# Altium footprint library 排针.PCBLIB: 50 footprints (part 1 of 4)
Each footprint in its own frame and in the unit in brackets; x right, y up, seen from the top. Pads: shape width x height; smd on the part's side, far side on the other; paste and mask are expansions set on the pad; w line width, h text height; cw(c..) or ccw(c..) is an arc to the next point about the centre after c.
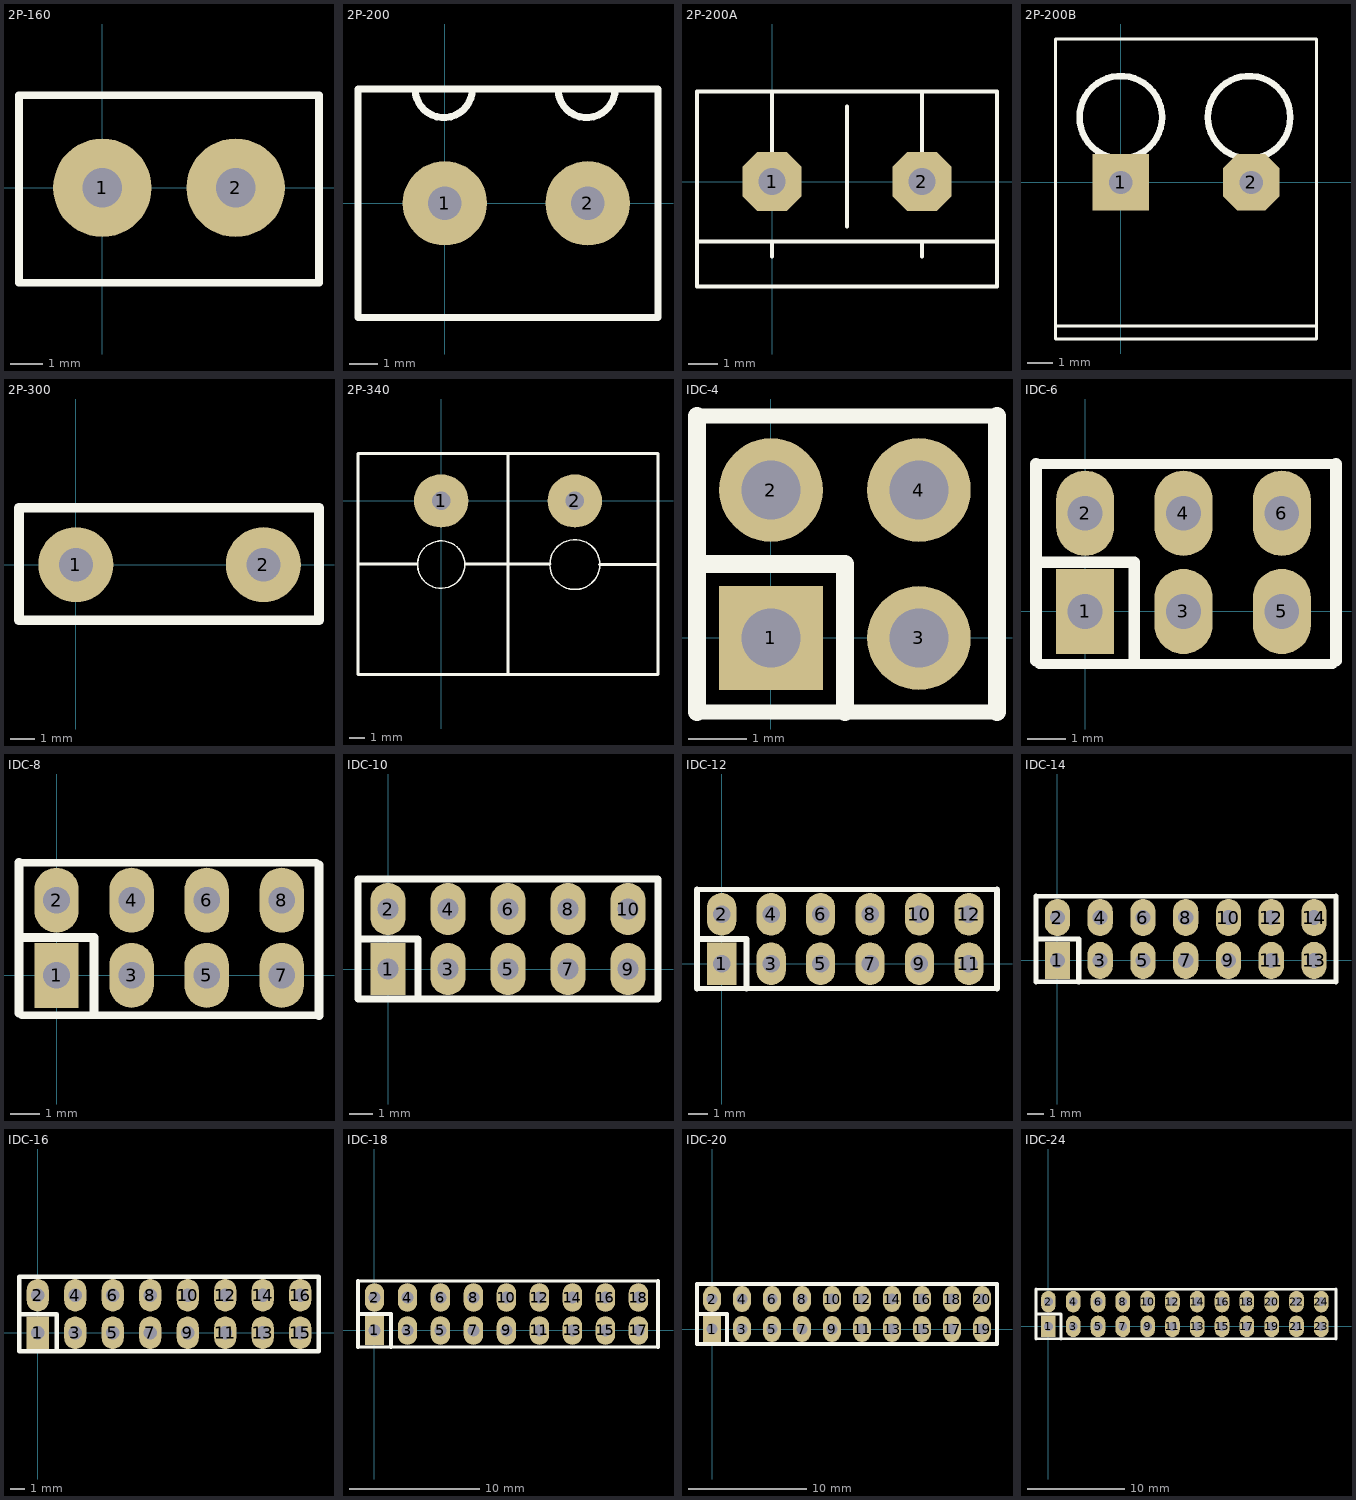
[diagram p0: the footprints below, top view; thin cyan lines are the x and y axes]

## 2P-160 [mm]
pads (2):
  round 3 hole 1.2: 1(0,0) 2(4.064,0)
TopOverlay:
  lines w0.24: -2.54,-2.896 6.604,-2.896 6.604,2.54 6.604,2.819 -2.54,2.819 -2.54,-2.896

## 2P-200 [mm]
pads (2):
  round 3 hole 1.2: 1(0,0) 2(5.08,0)
TopOverlay:
  lines w0.254: -1.056,4.064 ccw(c-0.04,4.064) 0.976,4.064 ; 4.024,4.064 ccw(c5.04,4.064) 6.056,4.064 ; -3.088,-4.064 7.58,-4.064 7.58,4.064 2.5,4.064 -3.088,4.064 -3.088,-4.064

## 2P-200A [mm]
pads (2):
  oct 2x2 hole 0.9: 1(0,0) 2(5.08,0)
TopOverlay:
  lines w0.127: -2.54,-2.032 7.62,-2.032 ; 0,-2.54 0,-2.032 ; 0,1.016 0,3.048 ; 2.54,-1.524 2.54,1.016 ; 2.54,0.508 2.54,2.54 ; 5.08,-2.54 5.08,-2.032 ; 5.08,1.016 5.08,3.048 ; -2.54,-3.556 -2.54,3.048 2.54,3.048 7.62,3.048 7.62,-3.556 2.54,-3.556 -2.54,-3.556

## 2P-200B [mm]
pads (2):
  rect 2.2x2.2 hole 0.9: 1(0,0)
  oct 2.2x2.2 hole 0.9: 2(5.08,0)
TopOverlay:
  circle w0.254: c4.998,2.54 r1.606
  circle w0.254: c0,2.54 r1.606
  lines w0.127: -2.54,-5.588 7.62,-5.588 ; -2.54,-5.588 -2.54,5.588 2.54,5.588 7.62,5.588 7.62,-5.588 ; -2.54,-5.588 -2.54,-6.096 7.62,-6.096 7.62,-5.588

## 2P-300 [mil]
pads (2):
  round 120 hole 54: 1(0,0) 2(300,0)
TopOverlay:
  lines w15.75: -91,-89 389,-89 389,91 -91,91 -91,-89

## 2P-340 [mm]
pads (2):
  oval 3.5x3.4 hole 1.2: 1(0,0) 2(8.6,0)
TopOverlay:
  circle w0.1: c8.6,-4.1 r1.606
  circle w0.1: c0,-4.1 r1.524
  lines w0.2: -5.352,-4.064 -1.6,-4.064 ; 1.56,-4.064 7,-4.064 ; 4.3,-11.176 4.3,3.048 ; 10.206,-4.1 13.916,-4.1 ; -5.352,-11.176 -5.352,3.048 13.952,3.048 13.952,-11.176 -5.352,-11.176

## IDC-4 [mil]
pads (4):
  rect 70x70 hole 40: 1(0,0)
  round 70 hole 40: 2(0,100) 3(100,0) 4(100,100)
TopOverlay:
  lines w10: -50,-50 152.76,-50 ; -50,150 152.76,150
  lines w12: -50,-50 -50,150 ; -50,50 50,50 50,-50 ; 152.76,-50 152.76,150

## IDC-6 [mm]
pads (6):
  rect 1.5x2.2 hole 0.9: 1(0,0)
  oval 1.5x2.2 hole 0.9: 2(0,2.54) 3(2.54,0) 4(2.54,2.54) 5(5.08,0) 6(5.08,2.54)
TopOverlay:
  lines w0.254: -1.27,-1.27 -1.184,-1.356 6.394,-1.356 6.48,-1.27 ; -1.27,3.81 6.48,3.81
  lines w0.305: -1.27,-1.27 -1.27,3.81 ; -1.27,1.27 1.27,1.27 1.27,-1.27 ; 6.48,-1.27 6.48,3.81

## IDC-8 [mm]
pads (8):
  rect 1.5x2.2 hole 0.9: 1(0,0)
  oval 1.5x2.2 hole 0.9: 2(0,2.54) 3(2.54,0) 4(2.54,2.54) 5(5.08,0) 6(5.08,2.54) 7(7.62,0) 8(7.62,2.54)
TopOverlay:
  lines w0.254: -1.27,-1.27 -1.184,-1.356 8.88,-1.356 ; -1.27,3.81 8.794,3.81 8.88,3.724
  lines w0.305: -1.27,-1.27 -1.27,3.81 ; -1.27,1.27 1.27,1.27 1.27,-1.27 ; 8.88,-1.356 8.88,3.724

## IDC-10 [mm]
pads (10):
  rect 1.5x2.2 hole 0.9: 1(0,0)
  oval 1.5x2.2 hole 0.9: 2(0,2.54) 3(2.54,0) 4(2.54,2.54) 5(5.08,0) 6(5.08,2.54) 7(7.62,0) 8(7.62,2.54) 9(10.16,0) 10(10.16,2.54)
TopOverlay:
  lines w0.305: -1.27,1.27 1.27,1.27 1.27,-1.27 ; -1.27,-1.27 -1.27,3.81 11.43,3.81 11.43,-1.27 -1.27,-1.27

## IDC-12 [mm]
pads (12):
  rect 1.5x2.2 hole 0.9: 1(0,0)
  oval 1.5x2.2 hole 0.9: 2(0,2.54) 3(2.54,0) 4(2.54,2.54) 5(5.08,0) 6(5.08,2.54) 7(7.62,0) 8(7.62,2.54) 9(10.16,0) 10(10.16,2.54) 11(12.7,0) 12(12.7,2.54)
TopOverlay:
  lines w0.254: -1.27,-1.27 14.144,-1.27 ; -1.27,3.81 14.144,3.81
  lines w0.305: -1.27,-1.27 -1.27,3.81 ; -1.27,1.27 1.27,1.27 1.27,-1.27 ; 14.144,-1.27 14.144,3.81

## IDC-14 [mm]
pads (14):
  rect 1.5x2.2 hole 0.9: 1(0,0)
  oval 1.5x2.2 hole 0.9: 2(0,2.54) 3(2.54,0) 4(2.54,2.54) 5(5.08,0) 6(5.08,2.54) 7(7.62,0) 8(7.62,2.54) 9(10.16,0) 10(10.16,2.54) 11(12.7,0) 12(12.7,2.54) 13(15.24,0) 14(15.24,2.54)
TopOverlay:
  lines w0.254: -1.27,-1.27 -1.264,-1.276 16.544,-1.276 ; -1.27,3.81 16.538,3.81 16.544,3.804
  lines w0.305: -1.27,-1.27 -1.27,3.81 ; -1.27,1.27 1.27,1.27 1.27,-1.27 ; 16.544,-1.276 16.544,3.804

## IDC-16 [mm]
pads (16):
  rect 1.5x2.2 hole 0.9: 1(0,0)
  oval 1.5x2.2 hole 0.9: 2(0,2.54) 3(2.54,0) 4(2.54,2.54) 5(5.08,0) 6(5.08,2.54) 7(7.62,0) 8(7.62,2.54) 9(10.16,0) 10(10.16,2.54) 11(12.7,0) 12(12.7,2.54) 13(15.24,0) 14(15.24,2.54) 15(17.78,0) 16(17.78,2.54)
TopOverlay:
  lines w0.305: -1.27,1.27 1.27,1.27 1.27,-1.27 ; -1.27,-1.27 19.05,-1.27 19.05,3.81 -1.27,3.81 -1.27,-1.27

## IDC-18 [mm]
pads (18):
  rect 1.5x2.2 hole 0.9: 1(0,0)
  oval 1.5x2.2 hole 0.9: 2(0,2.54) 3(2.54,0) 4(2.54,2.54) 5(5.08,0) 6(5.08,2.54) 7(7.62,0) 8(7.62,2.54) 9(10.16,0) 10(10.16,2.54) 11(12.7,0) 12(12.7,2.54) 13(15.24,0) 14(15.24,2.54) 15(17.78,0) 16(17.78,2.54) 17(20.32,0) 18(20.32,2.54)
TopOverlay:
  lines w0.254: -1.27,-1.27 21.824,-1.27 ; -1.27,3.81 21.824,3.81
  lines w0.305: -1.27,-1.27 -1.27,3.81 ; -1.27,1.27 1.27,1.27 1.27,-1.27 ; 21.824,-1.27 21.824,3.81

## IDC-20 [mm]
pads (20):
  rect 1.5x2.2 hole 0.9: 1(0,0)
  oval 1.5x2.2 hole 0.9: 2(0,2.54) 3(2.54,0) 4(2.54,2.54) 5(5.08,0) 6(5.08,2.54) 7(7.62,0) 8(7.62,2.54) 9(10.16,0) 10(10.16,2.54) 11(12.7,0) 12(12.7,2.54) 13(15.24,0) 14(15.24,2.54) 15(17.78,0) 16(17.78,2.54) 17(20.32,0) 18(20.32,2.54) 19(22.86,0) 20(22.86,2.54)
TopOverlay:
  lines w0.305: -1.27,1.27 1.27,1.27 1.27,-1.27 ; -1.27,-1.27 -1.27,3.81 24.13,3.81 24.13,-1.27 -1.27,-1.27

## IDC-24 [mm]
pads (24):
  rect 1.5x2.2 hole 0.9: 1(0,0)
  oval 1.5x2.2 hole 0.9: 2(0,2.54) 3(2.54,0) 4(2.54,2.54) 5(5.08,0) 6(5.08,2.54) 7(7.62,0) 8(7.62,2.54) 9(10.16,0) 10(10.16,2.54) 11(12.7,0) 12(12.7,2.54) 13(15.24,0) 14(15.24,2.54) 15(17.78,0) 16(17.78,2.54) 17(20.32,0) 18(20.32,2.54) 19(22.86,0) 20(22.86,2.54) 21(25.4,0) 22(25.4,2.54) 23(27.94,0) 24(27.94,2.54)
TopOverlay:
  lines w0.254: -1.27,-1.27 29.444,-1.27 ; -1.27,3.81 29.444,3.81
  lines w0.305: -1.27,-1.27 -1.27,3.81 ; -1.27,1.27 1.27,1.27 1.27,-1.27 ; 29.444,-1.27 29.444,3.81